# Altium footprint library TDK_B32921.PcbLib: 1 footprints
Each footprint in its own frame and in the unit in brackets; x right, y up, seen from the top. Pads: shape width x height; smd on the part's side, far side on the other; paste and mask are expansions set on the pad; w line width, h text height; cw(c..) or ccw(c..) is an arc to the next point about the centre after c.
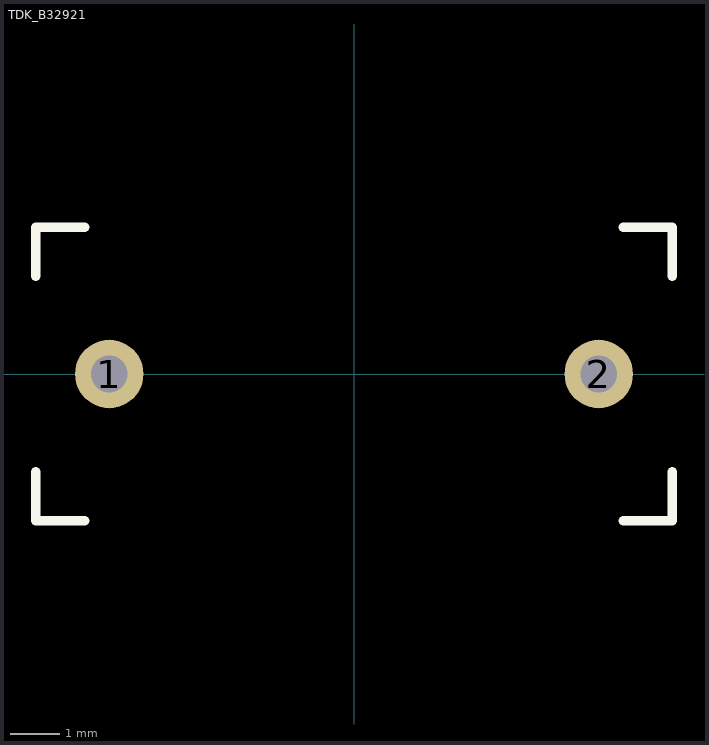
[diagram p0: the footprint, top view; thin cyan lines are the x and y axes]

## TDK_B32921 [mm] "TDK X2 Film Cap, 10mm Lead Spacing"
pads (2):
  round 1.4 hole 0.75: 1(-5,0) 2(5,0)
Top Overlay:
  lines w0.2: -6.5,-2 -6.5,-3 -5.5,-3 ; -6.5,2 -6.5,3 -5.5,3 ; 5.5,-3 6.5,-3 6.5,-2 ; 5.5,3 6.5,3 6.5,2
3D body: height 12, standoff 0, extent -6.5,-3 6.5,3